# EAGLE library part OLIMEX_IC_SY7208 (library A20-OLinuXino-Lime2_Rev_C)
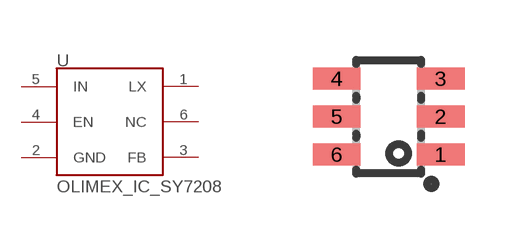
[diagram p13: symbol with the pads of OLIMEX_IC_SOT23-6; footprint OLIMEX_IC_SOT23-6]

Designator prefix U

## OLIMEX_IC_SY7208  [OLIMEX_IC_SOT23-6]
1  LX
2  GND
3  FB
4  EN
5  IN
6  NC

## Footprint OLIMEX_IC_SOT23-6 (pad centres in mm)
Rotated counterclockwise 90 by Penko to ba as is in the real reel
smd 1.2 x 0.55: 1 1.3,-0.95; 2 1.3,0; 3 1.3,0.95; 4 -1.3,0.95; 5 -1.3,0; 6 -1.3,-0.95